# EAGLE library part CY22393 (library clocks)
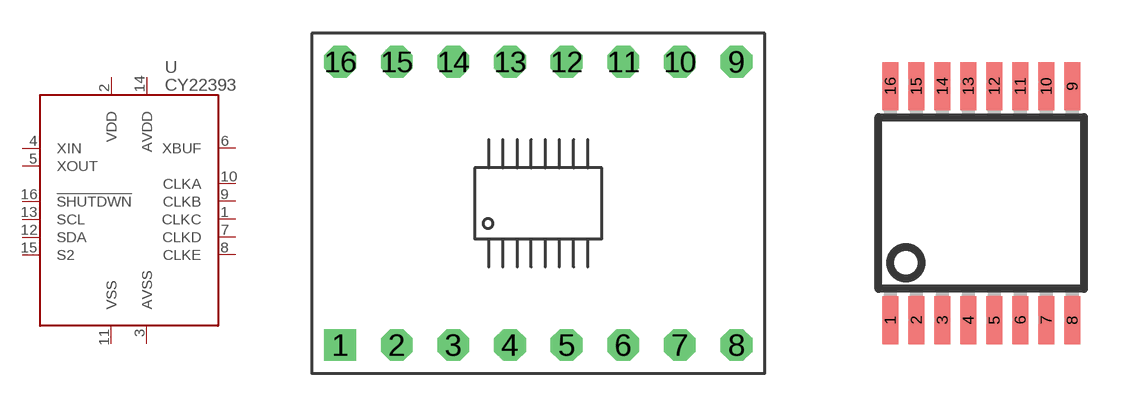
[diagram p3: symbol with the pads of TSSOP16_TO_DIP16; footprints TSSOP16_TO_DIP16, TSSOP16]

Designator prefix -

## CY22393  [TSSOP16_TO_DIP16]
1  CLKC
2  VDD
3  AVSS
4  XIN
5  XOUT
6  XBUF
7  CLKD
8  CLKE
9  CLKB
10  CLKA
11  VSS
12  SDA
13  SCL
14  AVDD
15  S2
16  !SHUTDWN

## CY22393SO  [TSSOP16]
Pads as for TSSOP16_TO_DIP16

## Footprint TSSOP16_TO_DIP16 (pad centres in mm)
drill 0.7 pad 1.422 square: 1 -8.89,-6.35
drill 0.7 pad 1.422 octagon: 2 -6.35,-6.35; 3 -3.81,-6.35; 4 -1.27,-6.35; 5 1.27,-6.35; 6 3.81,-6.35; 7 6.35,-6.35; 8 8.89,-6.35; 9 8.89,6.35; 10 6.35,6.35; 11 3.81,6.35; 12 1.27,6.35; 13 -1.27,6.35; 14 -3.81,6.35; 15 -6.35,6.35; 16 -8.89,6.35

## Footprint TSSOP16 (pad centres in mm)
Small Shrink Outline Package
smd 0.4 x 1.2: 1 -2.275,-2.925; 2 -1.625,-2.925; 3 -0.975,-2.925; 4 -0.325,-2.925; 5 0.325,-2.925; 6 0.975,-2.925; 7 1.625,-2.925; 8 2.275,-2.925; 9 2.275,2.925; 10 1.625,2.925; 11 0.975,2.925; 12 0.325,2.925; 13 -0.325,2.925; 14 -0.975,2.925; 15 -1.625,2.925; 16 -2.275,2.925